# EAGLE library part MAX3232 (library MCE_CircuitosIntegrados)
MAX3232 3-V to 5.5-V Multichannel RS-232 Line Driver and Receiver With ±15-kV ESD Protection
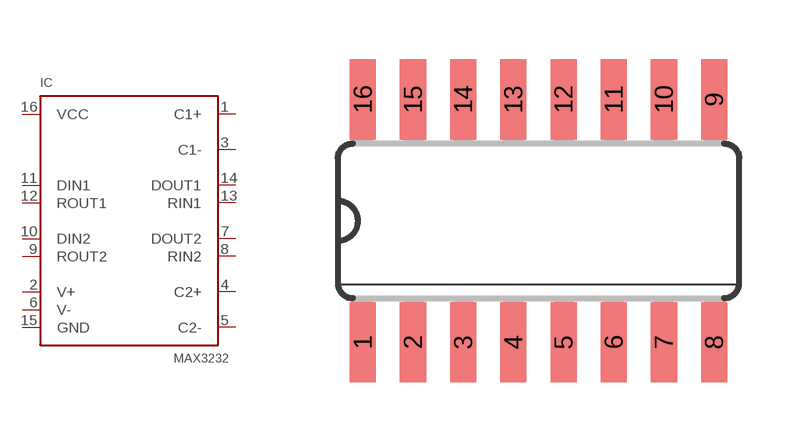
[diagram p19: symbol with the pads of SOIC16; footprint SOIC16]

Designator prefix IC

## MAX3232D  [SOIC16]
1  C1+  out
2  V+  out
3  C1-  out
4  C2+  out
5  C2-  out
6  V-  out
7  DOUT2  out
8  RIN2  in
9  ROUT2  out
10  DIN2  in
11  DIN1  in
12  ROUT1  out
13  RIN1  in
14  DOUT1  out
15  GND  out
16  VCC  out

## Footprint SOIC16 (pad centres in mm)
smd 0.66 x 2.032: 1 -4.216,-3.15; 2 -2.946,-3.15; 3 -1.676,-3.15; 4 -0.406,-3.15; 5 0.864,-3.15; 6 2.134,-3.15; 7 3.404,-3.15; 8 4.674,-3.15; 9 4.674,2.997; 10 3.404,2.997; 11 2.134,2.997; 12 0.864,2.997; 13 -0.406,2.997; 14 -1.676,2.997; 15 -2.946,2.997; 16 -4.216,2.997